# EAGLE library part ATM90E36A (library IntegratedLib)
Enhanced Poly-Phase High-Performance Wide-Span Energy Metering IC
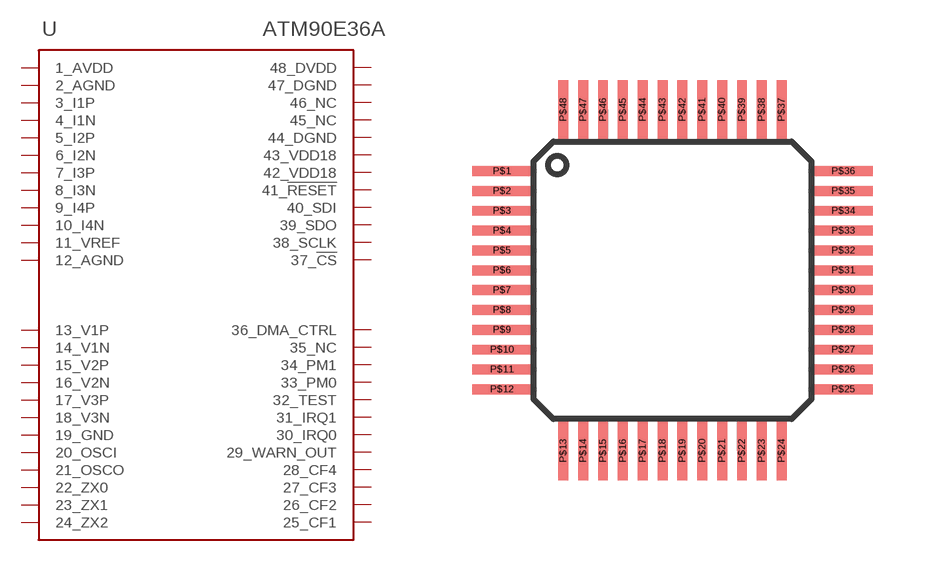
[diagram p41: symbol with the pads of TQFP-48; footprint TQFP-48]

Designator prefix U

## ATM90E36A (FABRICANTE: ATMEL; PARTNUMBER: ATM90E36A; TIPO: CIRCUITO INTEGRADO)  [TQFP-48]
P$1  1_AVDD
P$2  2_AGND
P$3  3_I1P
P$4  4_I1N
P$5  5_I2P
P$6  6_I2N
P$7  7_I3P
P$8  8_I3N
P$9  9_I4P
P$10  10_I4N
P$11  11_VREF
P$12  12_AGND
P$13  13_V1P
P$14  14_V1N
P$15  15_V2P
P$16  16_V2N
P$17  17_V3P
P$18  18_V3N
P$19  19_GND
P$20  20_OSCI
P$21  21_OSCO
P$22  22_ZX0
P$23  23_ZX1
P$24  24_ZX2
P$25  25_CF1
P$26  26_CF2
P$27  27_CF3
P$28  28_CF4
P$29  29_WARN_OUT
P$30  30_IRQ0
P$31  31_IRQ1
P$32  32_TEST
P$33  33_PM0
P$34  34_PM1
P$35  35_NC
P$36  36_DMA_CTRL
P$37  37_!CS
P$38  38_SCLK
P$39  39_SDO
P$40  40_SDI
P$41  41_!RESET
P$42  42_VDD18
P$43  43_VDD18
P$44  44_DGND
P$45  45_NC
P$46  46_NC
P$47  47_DGND
P$48  48_DVDD

## Footprint TQFP-48 (pad centres in mm)
smd 1.5 x 0.25: P$1 -4.3,2.75; P$2 -4.3,2.25; P$3 -4.3,1.75; P$4 -4.3,1.25; P$5 -4.3,0.75; P$6 -4.3,0.25; P$7 -4.3,-0.25; P$8 -4.3,-0.75; P$9 -4.3,-1.25; P$10 -4.3,-1.75; P$11 -4.3,-2.25; P$12 -4.3,-2.75; P$25 4.3,-2.75; P$26 4.3,-2.25; P$27 4.3,-1.75; P$28 4.3,-1.25; P$29 4.3,-0.75; P$30 4.3,-0.25; P$31 4.3,0.25; P$32 4.3,0.75; P$33 4.3,1.25; P$34 4.3,1.75; P$35 4.3,2.25; P$36 4.3,2.75
smd 0.25 x 1.5: P$13 -2.75,-4.3; P$14 -2.25,-4.3; P$15 -1.75,-4.3; P$16 -1.25,-4.3; P$17 -0.75,-4.3; P$18 -0.25,-4.3; P$19 0.25,-4.3; P$20 0.75,-4.3; P$21 1.25,-4.3; P$22 1.75,-4.3; P$23 2.25,-4.3; P$24 2.75,-4.3; P$37 2.75,4.3; P$38 2.25,4.3; P$39 1.75,4.3; P$40 1.25,4.3; P$41 0.75,4.3; P$42 0.25,4.3; P$43 -0.25,4.3; P$44 -0.75,4.3; P$45 -1.25,4.3; P$46 -1.75,4.3; P$47 -2.25,4.3; P$48 -2.75,4.3